# Altium schematic symbol library Capacitors.SchLib: 229 symbols (part 1 of 2)
Pins are listed as number, name and electrical type; pins without a type are passive.

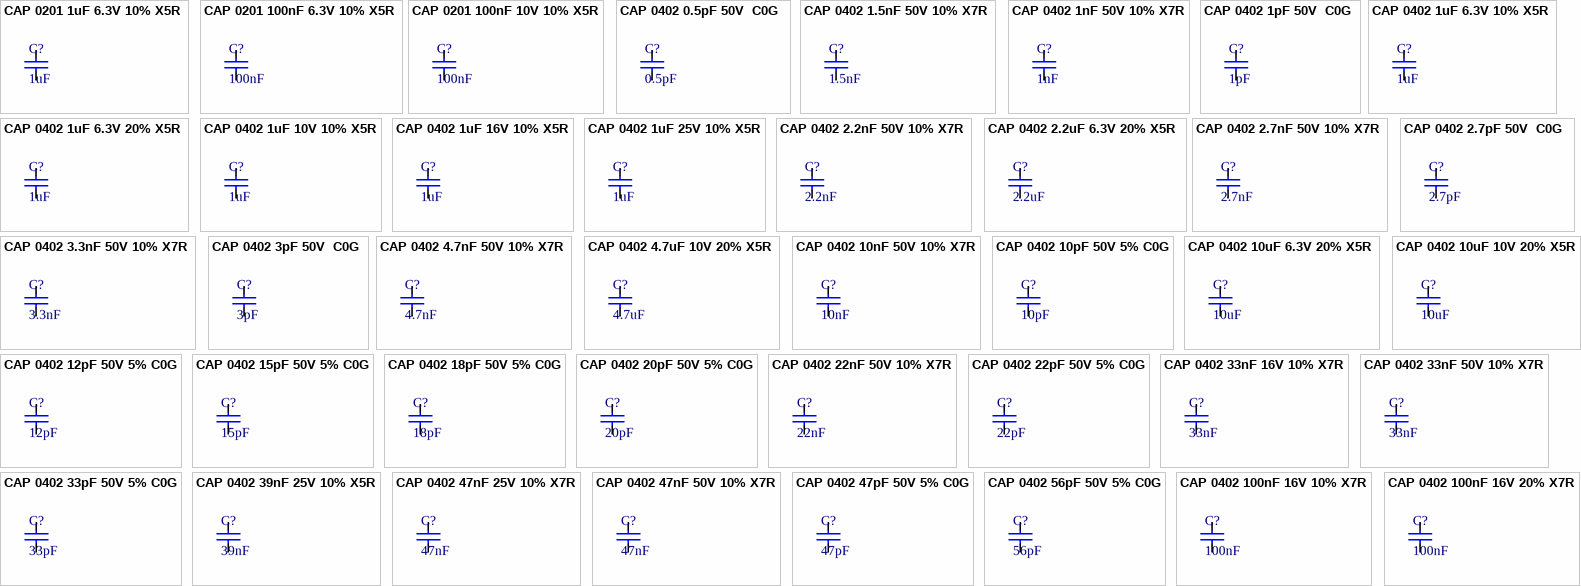
[diagram p0: symbols CAP 0201 1uF 6.3V 10% X5R to CAP 0402 100nF 16V 20% X7R]

## CAP 0201 1uF 6.3V 10% X5R
designator C?, comment 1uF
1uF 10% 6.3V Ceramic Capacitor X5R 0201; Manufacturer: FOJAN; Manufacturer Part Number: FCC0201X105K6R3ZT; Supplier: LCSC; Supplier Part Number: C5137589; Capacitance: 1uF; Tolerance: 10%; Voltage Rating: 6.3V; Temperature Coefficient: X5R
footprint CAP Ceramic SMD 0201
pins: 1, 2

## CAP 0201 100nF 6.3V 10% X5R
designator C?, comment 100nF
100nF 10% 6.3V Ceramic Capacitor X5R 0201; Manufacturer: FOJAN; Manufacturer Part Number: FCC0201X104K6R3ZT; Supplier: LCSC; Supplier Part Number: C5137479; Capacitance: 100nF; Tolerance: 10%; Voltage Rating: 6.3V; Temperature Coefficient: X5R
footprint CAP Ceramic SMD 0201
pins: 1, 2

## CAP 0201 100nF 10V 10% X5R
designator C?, comment 100nF
100nF 10% 10V Ceramic Capacitor X5R 0201; Manufacturer: FOJAN; Manufacturer Part Number: FCC0201X104K100ZT; Supplier: LCSC; Supplier Part Number: C7419414; Capacitance: 100nF; Tolerance: 10%; Voltage Rating: 10V; Temperature Coefficient: X5R
footprint CAP Ceramic SMD 0201
pins: 1, 2

## CAP 0402 0.5pF 50V  C0G
designator C?, comment 0.5pF
0.5pF 50V Ceramic Capacitor C0G 0402; Manufacturer: FOJAN; Manufacturer Part Number: FCC0402N0R5C500AT; Supplier: LCSC; Supplier Part Number: C5137618; Capacitance: 0.5pF; Voltage Rating: 50V; Temperature Coefficient: C0G
footprint CAP Ceramic SMD 0402
pins: 1, 2

## CAP 0402 1.5nF 50V 10% X7R
designator C?, comment 1.5nF
50V 1.5nF X7R 10% 0402 Ceramic Capacitors RoHS; Manufacturer: FOJAN; Manufacturer Part Number: FCC0402B152K500AT; Supplier: LCSC; Supplier Part Number: C7467153; Capacitance: 1.5nF; Tolerance: 10%; Voltage Rating: 50V; Temperature Coefficient: X7R
footprint CAP Ceramic SMD 0402
pins: 1, 2

## CAP 0402 1nF 50V 10% X7R
designator C?, comment 1nF
1nF 10% 50V Ceramic Capacitor X7R 0402; Manufacturer: FOJAN; Manufacturer Part Number: FCC0402B102K500AT; Supplier: LCSC; Supplier Part Number: C5137470; Capacitance: 1nF; Tolerance: 10%; Voltage Rating: 50V; Temperature Coefficient: X7R
footprint CAP Ceramic SMD 0402
pins: 1, 2

## CAP 0402 1pF 50V  C0G
designator C?, comment 1pF
1pF 50V Ceramic Capacitor C0G 0402; Manufacturer: FOJAN; Manufacturer Part Number: FCC0402N1R0C500AT; Supplier: LCSC; Supplier Part Number: C5137619; Capacitance: 1pF; Voltage Rating: 50V; Temperature Coefficient: C0G
footprint CAP Ceramic SMD 0402
pins: 1, 2

## CAP 0402 1uF 6.3V 10% X5R
designator C?, comment 1uF
1uF 10% 6.3V Ceramic Capacitor X5R 0402; Manufacturer: FOJAN; Manufacturer Part Number: FCC0402X105K6R3AT; Supplier: LCSC; Supplier Part Number: C5137474; Capacitance: 1uF; Tolerance: 10%; Voltage Rating: 6.3V; Temperature Coefficient: X5R
footprint CAP Ceramic SMD 0402
pins: 1, 2

## CAP 0402 1uF 6.3V 20% X5R
designator C?, comment 1uF
1uF 20% 6.3V Ceramic Capacitor X5R 0402; Manufacturer: FOJAN; Manufacturer Part Number: FCC0402X105M6R3AT; Supplier: LCSC; Supplier Part Number: C5137485; Capacitance: 1uF; Tolerance: 20%; Voltage Rating: 6.3V; Temperature Coefficient: X5R
footprint CAP Ceramic SMD 0402
pins: 1, 2

## CAP 0402 1uF 10V 10% X5R
designator C?, comment 1uF
1uF 10% 10V Ceramic Capacitor X5R 0402; Manufacturer: FOJAN; Manufacturer Part Number: FCC0402X105K100AT; Supplier: LCSC; Supplier Part Number: C5137473; Capacitance: 1uF; Tolerance: 10%; Voltage Rating: 10V; Temperature Coefficient: X5R
footprint CAP Ceramic SMD 0402
pins: 1, 2

## CAP 0402 1uF 16V 10% X5R
designator C?, comment 1uF
1uF 10% 16V Ceramic Capacitor X5R 0402; Manufacturer: FOJAN; Manufacturer Part Number: FCC0402X105K160AT; Supplier: LCSC; Supplier Part Number: C5137499; Capacitance: 1uF; Tolerance: 10%; Voltage Rating: 16V; Temperature Coefficient: X5R
footprint CAP Ceramic SMD 0402
pins: 1, 2

## CAP 0402 1uF 25V 10% X5R
designator C?, comment 1uF
1uF 10% 25V Ceramic Capacitor X5R 0402; Manufacturer: FOJAN; Manufacturer Part Number: FCC0402X105K250AT; Supplier: LCSC; Supplier Part Number: C7467048; Capacitance: 1uF; Tolerance: 10%; Voltage Rating: 25V; Temperature Coefficient: X5R
footprint CAP Ceramic SMD 0402
pins: 1, 2

## CAP 0402 2.2nF 50V 10% X7R
designator C?, comment 2.2nF
2.2nF 10% 50V Ceramic Capacitor X7R 0402; Manufacturer: FOJAN; Manufacturer Part Number: FCC0402B222K500AT; Supplier: LCSC; Supplier Part Number: C5137601; Capacitance: 2.2nF; Tolerance: 10%; Voltage Rating: 50V; Temperature Coefficient: X7R
footprint CAP Ceramic SMD 0402
pins: 1, 2

## CAP 0402 2.2uF 6.3V 20% X5R
designator C?, comment 2.2uF
2.2uF 20% 6.3V Ceramic Capacitor X5R 0402; Manufacturer: FOJAN; Manufacturer Part Number: FCC0402X225M6R3AT; Supplier: LCSC; Supplier Part Number: C46635919; Capacitance: 2.2uF; Tolerance: 20%; Voltage Rating: 6.3V; Temperature Coefficient: X5R
footprint CAP Ceramic SMD 0402
pins: 1, 2

## CAP 0402 2.7nF 50V 10% X7R
designator C?, comment 2.7nF
2.7nF 10% 50V Ceramic Capacitor X7R 0402; Manufacturer: FOJAN; Manufacturer Part Number: FCC0402B272K500AT; Supplier: LCSC; Supplier Part Number: C5137593; Capacitance: 2.7nF; Tolerance: 10%; Voltage Rating: 50V; Temperature Coefficient: X7R
footprint CAP Ceramic SMD 0402
pins: 1, 2

## CAP 0402 2.7pF 50V  C0G
designator C?, comment 2.7pF
2.7pF 50V Ceramic Capacitor C0G 0402; Manufacturer: FOJAN; Manufacturer Part Number: FCC0402N2R7C500AT; Supplier: LCSC; Supplier Part Number: C5137648; Capacitance: 2.7pF; Voltage Rating: 50V; Temperature Coefficient: C0G
footprint CAP Ceramic SMD 0402
pins: 1, 2

## CAP 0402 3.3nF 50V 10% X7R
designator C?, comment 3.3nF
3.3nF 10% 50V Ceramic Capacitor X7R 0402; Manufacturer: FOJAN; Manufacturer Part Number: FCC0402B332K500AT; Supplier: LCSC; Supplier Part Number: C5137602; Capacitance: 3.3nF; Tolerance: 10%; Voltage Rating: 50V; Temperature Coefficient: X7R
footprint CAP Ceramic SMD 0402
pins: 1, 2

## CAP 0402 3pF 50V  C0G
designator C?, comment 3pF
3pF 50V Ceramic Capacitor C0G 0402; Manufacturer: FOJAN; Manufacturer Part Number: FCC0402N3R0C500AT; Supplier: LCSC; Supplier Part Number: C5137613; Capacitance: 3pF; Voltage Rating: 50V; Temperature Coefficient: C0G
footprint CAP Ceramic SMD 0402
pins: 1, 2

## CAP 0402 4.7nF 50V 10% X7R
designator C?, comment 4.7nF
4.7nF 10% 50V Ceramic Capacitor X7R 0402; Manufacturer: FOJAN; Manufacturer Part Number: FCC0402B472K500AT; Supplier: LCSC; Supplier Part Number: C5137597; Capacitance: 4.7nF; Tolerance: 10%; Voltage Rating: 50V; Temperature Coefficient: X7R
footprint CAP Ceramic SMD 0402
pins: 1, 2

## CAP 0402 4.7uF 10V 20% X5R
designator C?, comment 4.7uF
4.7uF 20% 10V Ceramic Capacitor X5R 0402; Manufacturer: FOJAN; Manufacturer Part Number: FCC0402X475M100AT; Supplier: LCSC; Supplier Part Number: C46635918; Capacitance: 4.7uF; Tolerance: 20%; Voltage Rating: 10V; Temperature Coefficient: X5R
footprint CAP Ceramic SMD 0402
pins: 1, 2

## CAP 0402 10nF 50V 10% X7R
designator C?, comment 10nF
10nF 10% 50V Ceramic Capacitor X7R 0402; Manufacturer: FOJAN; Manufacturer Part Number: FCC0402B103K500AT; Supplier: LCSC; Supplier Part Number: C5137480; Capacitance: 10nF; Tolerance: 10%; Voltage Rating: 50V; Temperature Coefficient: X7R
footprint CAP Ceramic SMD 0402
pins: 1, 2

## CAP 0402 10pF 50V 5% C0G
designator C?, comment 10pF
10pF 5% 50V Ceramic Capacitor C0G 0402; Manufacturer: FOJAN; Manufacturer Part Number: FCC0402N100J500AT; Supplier: LCSC; Supplier Part Number: C5137557; Capacitance: 10pF; Tolerance: 5%; Voltage Rating: 50V; Temperature Coefficient: C0G
footprint CAP Ceramic SMD 0402
pins: 1, 2

## CAP 0402 10uF 6.3V 20% X5R
designator C?, comment 10uF
10uF 20% 6.3V Ceramic Capacitor X5R 0402; Manufacturer: FOJAN; Manufacturer Part Number: FCC0402X106M6R3AT; Supplier: LCSC; Supplier Part Number: C46635916; Capacitance: 10uF; Tolerance: 20%; Voltage Rating: 6.3V; Temperature Coefficient: X5R
footprint CAP Ceramic SMD 0402
pins: 1, 2

## CAP 0402 10uF 10V 20% X5R
designator C?, comment 10uF
10uF 20% 10V Ceramic Capacitor X5R 0402; Manufacturer: FOJAN; Manufacturer Part Number: FCC0402X106M100AT; Supplier: LCSC; Supplier Part Number: C7467116; Capacitance: 10uF; Tolerance: 20%; Voltage Rating: 10V; Temperature Coefficient: X5R
footprint CAP Ceramic SMD 0402
pins: 1, 2

## CAP 0402 12pF 50V 5% C0G
designator C?, comment 12pF
12pF 5% 50V Ceramic Capacitor C0G 0402; Manufacturer: FOJAN; Manufacturer Part Number: FCC0402N120J500AT; Supplier: LCSC; Supplier Part Number: C7467122; Capacitance: 12pF; Tolerance: 5%; Voltage Rating: 50V; Temperature Coefficient: C0G
footprint CAP Ceramic SMD 0402
pins: 1, 2

## CAP 0402 15pF 50V 5% C0G
designator C?, comment 15pF
15pF 5% 50V Ceramic Capacitor C0G 0402; Manufacturer: FOJAN; Manufacturer Part Number: FCC0402N150J500AT; Supplier: LCSC; Supplier Part Number: C5137592; Capacitance: 15pF; Tolerance: 5%; Voltage Rating: 50V; Temperature Coefficient: C0G
footprint CAP Ceramic SMD 0402
pins: 1, 2

## CAP 0402 18pF 50V 5% C0G
designator C?, comment 18pF
18pF 5% 50V Ceramic Capacitor C0G 0402; Manufacturer: FOJAN; Manufacturer Part Number: FCC0402N180J500AT; Supplier: LCSC; Supplier Part Number: C5137554; Capacitance: 18pF; Tolerance: 5%; Voltage Rating: 50V; Temperature Coefficient: C0G
footprint CAP Ceramic SMD 0402
pins: 1, 2

## CAP 0402 20pF 50V 5% C0G
designator C?, comment 20pF
20pF 5% 50V Ceramic Capacitor C0G 0402; Manufacturer: FOJAN; Manufacturer Part Number: FCC0402N200J500AT; Supplier: LCSC; Supplier Part Number: C5137579; Capacitance: 20pF; Tolerance: 5%; Voltage Rating: 50V; Temperature Coefficient: C0G
footprint CAP Ceramic SMD 0402
pins: 1, 2

## CAP 0402 22nF 50V 10% X7R
designator C?, comment 22nF
22nF 10% 50V Ceramic Capacitor X7R 0402; Manufacturer: FOJAN; Manufacturer Part Number: FCC0402B223K500AT; Supplier: LCSC; Supplier Part Number: C5137627; Capacitance: 22nF; Tolerance: 10%; Voltage Rating: 50V; Temperature Coefficient: X7R
footprint CAP Ceramic SMD 0402
pins: 1, 2

## CAP 0402 22pF 50V 5% C0G
designator C?, comment 22pF
22pF 5% 50V Ceramic Capacitor C0G 0402; Manufacturer: FOJAN; Manufacturer Part Number: FCC0402N220J500AT; Supplier: LCSC; Supplier Part Number: C5137569; Capacitance: 22pF; Tolerance: 5%; Voltage Rating: 50V; Temperature Coefficient: C0G
footprint CAP Ceramic SMD 0402
pins: 1, 2

## CAP 0402 33nF 16V 10% X7R
designator C?, comment 33nF
33nF 10% 16V Ceramic Capacitor X7R 0402; Manufacturer: FOJAN; Manufacturer Part Number: FCC0402B333K160AT; Supplier: LCSC; Supplier Part Number: C5137555; Capacitance: 33nF; Tolerance: 10%; Voltage Rating: 16V; Temperature Coefficient: X7R
footprint CAP Ceramic SMD 0402
pins: 1, 2

## CAP 0402 33nF 50V 10% X7R
designator C?, comment 33nF
33nF 10% 50V Ceramic Capacitor X7R 0402; Manufacturer: FOJAN; Manufacturer Part Number: FCC0402B333K500AT; Supplier: LCSC; Supplier Part Number: C7419416; Capacitance: 33nF; Tolerance: 10%; Voltage Rating: 50V; Temperature Coefficient: X7R
footprint CAP Ceramic SMD 0402
pins: 1, 2

## CAP 0402 33pF 50V 5% C0G
designator C?, comment 33pF
33pF 5% 50V Ceramic Capacitor C0G 0402; Manufacturer: FOJAN; Manufacturer Part Number: FCC0402N330J500AT; Supplier: LCSC; Supplier Part Number: C5137486; Capacitance: 33pF; Tolerance: 5%; Voltage Rating: 50V; Temperature Coefficient: C0G
footprint CAP Ceramic SMD 0402
pins: 1, 2

## CAP 0402 39nF 25V 10% X5R
designator C?, comment 39nF
39nF 10% 25V Ceramic Capacitor X5R 0402; Manufacturer: FOJAN; Manufacturer Part Number: FCC0402X393K250AT; Supplier: LCSC; Supplier Part Number: C7496650; Capacitance: 39nF; Tolerance: 10%; Voltage Rating: 25V; Temperature Coefficient: X5R
footprint CAP Ceramic SMD 0402
pins: 1, 2

## CAP 0402 47nF 25V 10% X7R
designator C?, comment 47nF
47nF 10% 25V Ceramic Capacitor X7R 0402; Manufacturer: FOJAN; Manufacturer Part Number: FCC0402B473K250AT; Supplier: LCSC; Supplier Part Number: C5137574; Capacitance: 47nF; Tolerance: 10%; Voltage Rating: 25V; Temperature Coefficient: X7R
footprint CAP Ceramic SMD 0402
pins: 1, 2

## CAP 0402 47nF 50V 10% X7R
designator C?, comment 47nF
47nF 10% 50V Ceramic Capacitor X7R 0402; Manufacturer: FOJAN; Manufacturer Part Number: FCC0402B473K500AT; Supplier: LCSC; Supplier Part Number: C7467123; Capacitance: 47nF; Tolerance: 10%; Voltage Rating: 50V; Temperature Coefficient: X7R
footprint CAP Ceramic SMD 0402
pins: 1, 2

## CAP 0402 47pF 50V 5% C0G
designator C?, comment 47pF
47pF 5% 50V Ceramic Capacitor C0G 0402; Manufacturer: FOJAN; Manufacturer Part Number: FCC0402N470J500AT; Supplier: LCSC; Supplier Part Number: C7467145; Capacitance: 47pF; Tolerance: 5%; Voltage Rating: 50V; Temperature Coefficient: C0G
footprint CAP Ceramic SMD 0402
pins: 1, 2

## CAP 0402 56pF 50V 5% C0G
designator C?, comment 56pF
56pF 5% 50V Ceramic Capacitor C0G 0402; Manufacturer: FOJAN; Manufacturer Part Number: FCC0402N560J500AT; Supplier: LCSC; Supplier Part Number: C5137588; Capacitance: 56pF; Tolerance: 5%; Voltage Rating: 50V; Temperature Coefficient: C0G
footprint CAP Ceramic SMD 0402
pins: 1, 2

## CAP 0402 100nF 16V 10% X7R
designator C?, comment 100nF
100nF 10% 16V Ceramic Capacitor X7R 0402; Manufacturer: FOJAN; Manufacturer Part Number: FCC0402B104K160AT; Supplier: LCSC; Supplier Part Number: C5137468; Capacitance: 100nF; Tolerance: 10%; Voltage Rating: 16V; Temperature Coefficient: X7R
footprint CAP Ceramic SMD 0402
pins: 1, 2

## CAP 0402 100nF 16V 20% X7R
designator C?, comment 100nF
100nF 20% 16V Ceramic Capacitor X7R 0402; Manufacturer: FOJAN; Manufacturer Part Number: FCC0402B104M160AT; Supplier: LCSC; Supplier Part Number: C5137487; Capacitance: 100nF; Tolerance: 20%; Voltage Rating: 16V; Temperature Coefficient: X7R
footprint CAP Ceramic SMD 0402
pins: 1, 2

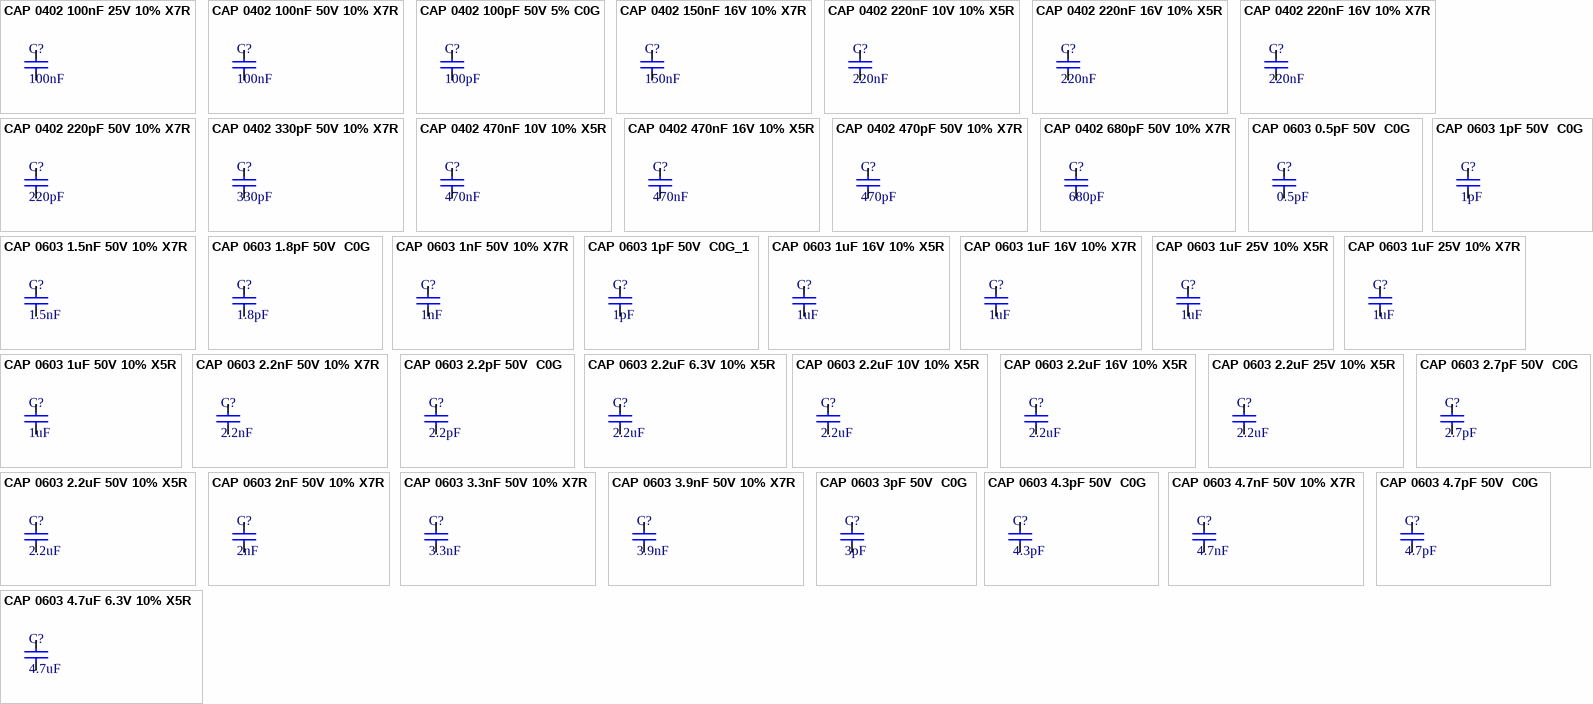
[diagram p1: symbols CAP 0402 100nF 25V 10% X7R to CAP 0603 4.7uF 6.3V 10% X5R]

## CAP 0402 100nF 25V 10% X7R
designator C?, comment 100nF
100nF 10% 25V Ceramic Capacitor X7R 0402; Manufacturer: FOJAN; Manufacturer Part Number: FCC0402B104K250AT; Supplier: LCSC; Supplier Part Number: C5137489; Capacitance: 100nF; Tolerance: 10%; Voltage Rating: 25V; Temperature Coefficient: X7R
footprint CAP Ceramic SMD 0402
pins: 1, 2

## CAP 0402 100nF 50V 10% X7R
designator C?, comment 100nF
100nF 10% 50V Ceramic Capacitor X7R 0402; Manufacturer: FOJAN; Manufacturer Part Number: FCC0402B104K500AT; Supplier: LCSC; Supplier Part Number: C5137492; Capacitance: 100nF; Tolerance: 10%; Voltage Rating: 50V; Temperature Coefficient: X7R
footprint CAP Ceramic SMD 0402
pins: 1, 2

## CAP 0402 100pF 50V 5% C0G
designator C?, comment 100pF
100pF 5% 50V Ceramic Capacitor C0G 0402; Manufacturer: FOJAN; Manufacturer Part Number: FCC0402N101J500AT; Supplier: LCSC; Supplier Part Number: C5137573; Capacitance: 100pF; Tolerance: 5%; Voltage Rating: 50V; Temperature Coefficient: C0G
footprint CAP Ceramic SMD 0402
pins: 1, 2

## CAP 0402 150nF 16V 10% X7R
designator C?, comment 150nF
150nF 10% 16V Ceramic Capacitor X7R 0402; Manufacturer: FOJAN; Manufacturer Part Number: FCC0402B154K160AT; Supplier: LCSC; Supplier Part Number: C7496646; Capacitance: 150nF; Tolerance: 10%; Voltage Rating: 16V; Temperature Coefficient: X7R
footprint CAP Ceramic SMD 0402
pins: 1, 2

## CAP 0402 220nF 10V 10% X5R
designator C?, comment 220nF
220nF 10% 10V Ceramic Capacitor X5R 0402; Manufacturer: FOJAN; Manufacturer Part Number: FCC0402X224K100AT; Supplier: LCSC; Supplier Part Number: C5137570; Capacitance: 220nF; Tolerance: 10%; Voltage Rating: 10V; Temperature Coefficient: X5R
footprint CAP Ceramic SMD 0402
pins: 1, 2

## CAP 0402 220nF 16V 10% X5R
designator C?, comment 220nF
220nF 10% 16V Ceramic Capacitor X5R 0402; Manufacturer: FOJAN; Manufacturer Part Number: FCC0402X224K160AT; Supplier: LCSC; Supplier Part Number: C5137633; Capacitance: 220nF; Tolerance: 10%; Voltage Rating: 16V; Temperature Coefficient: X5R
footprint CAP Ceramic SMD 0402
pins: 1, 2

## CAP 0402 220nF 16V 10% X7R
designator C?, comment 220nF
220nF 10% 16V Ceramic Capacitor X7R 0402; Manufacturer: FOJAN; Manufacturer Part Number: FCC0402B224K160AT; Supplier: LCSC; Supplier Part Number: C7419415; Capacitance: 220nF; Tolerance: 10%; Voltage Rating: 16V; Temperature Coefficient: X7R
footprint CAP Ceramic SMD 0402
pins: 1, 2

## CAP 0402 220pF 50V 10% X7R
designator C?, comment 220pF
220pF 10% 50V Ceramic Capacitor X7R 0402; Manufacturer: FOJAN; Manufacturer Part Number: FCC0402B221K500AT; Supplier: LCSC; Supplier Part Number: C5137590; Capacitance: 220pF; Tolerance: 10%; Voltage Rating: 50V; Temperature Coefficient: X7R
footprint CAP Ceramic SMD 0402
pins: 1, 2

## CAP 0402 330pF 50V 10% X7R
designator C?, comment 330pF
330pF 10% 50V Ceramic Capacitor X7R 0402; Manufacturer: FOJAN; Manufacturer Part Number: FCC0402B331K500AT; Supplier: LCSC; Supplier Part Number: C7467142; Capacitance: 330pF; Tolerance: 10%; Voltage Rating: 50V; Temperature Coefficient: X7R
footprint CAP Ceramic SMD 0402
pins: 1, 2

## CAP 0402 470nF 10V 10% X5R
designator C?, comment 470nF
470nF 10% 10V Ceramic Capacitor X5R 0402; Manufacturer: FOJAN; Manufacturer Part Number: FCC0402X474K100AT; Supplier: LCSC; Supplier Part Number: C5137475; Capacitance: 470nF; Tolerance: 10%; Voltage Rating: 10V; Temperature Coefficient: X5R
footprint CAP Ceramic SMD 0402
pins: 1, 2

## CAP 0402 470nF 16V 10% X5R
designator C?, comment 470nF
470nF 10% 16V Ceramic Capacitor X5R 0402; Manufacturer: FOJAN; Manufacturer Part Number: FCC0402X474K160AT; Supplier: LCSC; Supplier Part Number: C7467110; Capacitance: 470nF; Tolerance: 10%; Voltage Rating: 16V; Temperature Coefficient: X5R
footprint CAP Ceramic SMD 0402
pins: 1, 2

## CAP 0402 470pF 50V 10% X7R
designator C?, comment 470pF
470pF 10% 50V Ceramic Capacitor X7R 0402; Manufacturer: FOJAN; Manufacturer Part Number: FCC0402B471K500AT; Supplier: LCSC; Supplier Part Number: C7467119; Capacitance: 470pF; Tolerance: 10%; Voltage Rating: 50V; Temperature Coefficient: X7R
footprint CAP Ceramic SMD 0402
pins: 1, 2

## CAP 0402 680pF 50V 10% X7R
designator C?, comment 680pF
680pF 10% 50V Ceramic Capacitor X7R 0402; Manufacturer: FOJAN; Manufacturer Part Number: FCC0402B681K500AT; Supplier: LCSC; Supplier Part Number: C5137577; Capacitance: 680pF; Tolerance: 10%; Voltage Rating: 50V; Temperature Coefficient: X7R
footprint CAP Ceramic SMD 0402
pins: 1, 2

## CAP 0603 0.5pF 50V  C0G
designator C?, comment 0.5pF
0.5pF 50V Ceramic Capacitor C0G 0603; Manufacturer: FOJAN; Manufacturer Part Number: FCC0603N0R5C500CT; Supplier: LCSC; Supplier Part Number: C5137584; Capacitance: 0.5pF; Voltage Rating: 50V; Temperature Coefficient: C0G
footprint CAP Ceramic SMD 0603
pins: 1, 2

## CAP 0603 1.5nF 50V 10% X7R
designator C?, comment 1.5nF
1.5nF 10% 50V Ceramic Capacitor X7R 0603; Manufacturer: FOJAN; Manufacturer Part Number: FCC0603B152K500CT; Supplier: LCSC; Supplier Part Number: C5137609; Capacitance: 1.5nF; Tolerance: 10%; Voltage Rating: 50V; Temperature Coefficient: X7R
footprint CAP Ceramic SMD 0603
pins: 1, 2

## CAP 0603 1.8pF 50V  C0G
designator C?, comment 1.8pF
1.8pF 50V Ceramic Capacitor C0G 0603; Manufacturer: FOJAN; Manufacturer Part Number: FCC0603N1R8C500CT; Supplier: LCSC; Supplier Part Number: C5137638; Capacitance: 1.8pF; Voltage Rating: 50V; Temperature Coefficient: C0G
footprint CAP Ceramic SMD 0603
pins: 1, 2

## CAP 0603 1nF 50V 10% X7R
designator C?, comment 1nF
1nF 10% 50V Ceramic Capacitor X7R 0603; Manufacturer: FOJAN; Manufacturer Part Number: FCC0603B102K500CT; Supplier: LCSC; Supplier Part Number: C5137481; Capacitance: 1nF; Tolerance: 10%; Voltage Rating: 50V; Temperature Coefficient: X7R
footprint CAP Ceramic SMD 0603
pins: 1, 2

## CAP 0603 1pF 50V  C0G
designator C?, comment 1pF
1pF 50V Ceramic Capacitor C0G 0603; Manufacturer: FOJAN; Manufacturer Part Number: FCC0603N1R0C500CT; Supplier: LCSC; Supplier Part Number: C5137611; Capacitance: 1pF; Voltage Rating: 50V; Temperature Coefficient: C0G
footprint CAP Ceramic SMD 0603
pins: 1, 2

## CAP 0603 1pF 50V  C0G_1
designator C?, comment 1pF
1pF 50V Ceramic Capacitor C0G 0603; Manufacturer: FOJAN; Manufacturer Part Number: FCC0603N1R0D500CT; Supplier: LCSC; Supplier Part Number: C7419420; Capacitance: 1pF; Voltage Rating: 50V; Temperature Coefficient: C0G
footprint CAP Ceramic SMD 0603
pins: 1, 2

## CAP 0603 1uF 16V 10% X5R
designator C?, comment 1uF
1uF 10% 16V Ceramic Capacitor X5R 0603; Manufacturer: FOJAN; Manufacturer Part Number: FCC0603X105K160CT; Supplier: LCSC; Supplier Part Number: C5137472; Capacitance: 1uF; Tolerance: 10%; Voltage Rating: 16V; Temperature Coefficient: X5R
footprint CAP Ceramic SMD 0603
pins: 1, 2

## CAP 0603 1uF 16V 10% X7R
designator C?, comment 1uF
1uF 10% 16V Ceramic Capacitor X7R 0603; Manufacturer: FOJAN; Manufacturer Part Number: FCC0603B105K160CT; Supplier: LCSC; Supplier Part Number: C7419418; Capacitance: 1uF; Tolerance: 10%; Voltage Rating: 16V; Temperature Coefficient: X7R
footprint CAP Ceramic SMD 0603
pins: 1, 2

## CAP 0603 1uF 25V 10% X5R
designator C?, comment 1uF
1uF 10% 25V Ceramic Capacitor X5R 0603; Manufacturer: FOJAN; Manufacturer Part Number: FCC0603X105K250CT; Supplier: LCSC; Supplier Part Number: C5137604; Capacitance: 1uF; Tolerance: 10%; Voltage Rating: 25V; Temperature Coefficient: X5R
footprint CAP Ceramic SMD 0603
pins: 1, 2

## CAP 0603 1uF 25V 10% X7R
designator C?, comment 1uF
1uF 10% 25V Ceramic Capacitor X7R 0603; Manufacturer: FOJAN; Manufacturer Part Number: FCC0603B105K250CT; Supplier: LCSC; Supplier Part Number: C5137572; Capacitance: 1uF; Tolerance: 10%; Voltage Rating: 25V; Temperature Coefficient: X7R
footprint CAP Ceramic SMD 0603
pins: 1, 2

## CAP 0603 1uF 50V 10% X5R
designator C?, comment 1uF
1uF 10% 50V Ceramic Capacitor X5R 0603; Manufacturer: FOJAN; Manufacturer Part Number: FCC0603X105K500CT; Supplier: LCSC; Supplier Part Number: C7419424; Capacitance: 1uF; Tolerance: 10%; Voltage Rating: 50V; Temperature Coefficient: X5R
footprint CAP Ceramic SMD 0603
pins: 1, 2

## CAP 0603 2.2nF 50V 10% X7R
designator C?, comment 2.2nF
2.2nF 10% 50V Ceramic Capacitor X7R 0603; Manufacturer: FOJAN; Manufacturer Part Number: FCC0603B222K500CT; Supplier: LCSC; Supplier Part Number: C5137562; Capacitance: 2.2nF; Tolerance: 10%; Voltage Rating: 50V; Temperature Coefficient: X7R
footprint CAP Ceramic SMD 0603
pins: 1, 2

## CAP 0603 2.2pF 50V  C0G
designator C?, comment 2.2pF
2.2pF 50V Ceramic Capacitor C0G 0603; Manufacturer: FOJAN; Manufacturer Part Number: FCC0603N2R2C500CT; Supplier: LCSC; Supplier Part Number: C5137608; Capacitance: 2.2pF; Voltage Rating: 50V; Temperature Coefficient: C0G
footprint CAP Ceramic SMD 0603
pins: 1, 2

## CAP 0603 2.2uF 6.3V 10% X5R
designator C?, comment 2.2uF
2.2uF 10% 6.3V Ceramic Capacitor X5R 0603; Manufacturer: FOJAN; Manufacturer Part Number: FCC0603X225K6R3CT; Supplier: LCSC; Supplier Part Number: C5137560; Capacitance: 2.2uF; Tolerance: 10%; Voltage Rating: 6.3V; Temperature Coefficient: X5R
footprint CAP Ceramic SMD 0603
pins: 1, 2

## CAP 0603 2.2uF 10V 10% X5R
designator C?, comment 2.2uF
2.2uF 10% 10V Ceramic Capacitor X5R 0603; Manufacturer: FOJAN; Manufacturer Part Number: FCC0603X225K100CT; Supplier: LCSC; Supplier Part Number: C5137558; Capacitance: 2.2uF; Tolerance: 10%; Voltage Rating: 10V; Temperature Coefficient: X5R
footprint CAP Ceramic SMD 0603
pins: 1, 2

## CAP 0603 2.2uF 16V 10% X5R
designator C?, comment 2.2uF
2.2uF 10% 16V Ceramic Capacitor X5R 0603; Manufacturer: FOJAN; Manufacturer Part Number: FCC0603X225K160CT; Supplier: LCSC; Supplier Part Number: C5137502; Capacitance: 2.2uF; Tolerance: 10%; Voltage Rating: 16V; Temperature Coefficient: X5R
footprint CAP Ceramic SMD 0603
pins: 1, 2

## CAP 0603 2.2uF 25V 10% X5R
designator C?, comment 2.2uF
2.2uF 10% 25V Ceramic Capacitor X5R 0603; Manufacturer: FOJAN; Manufacturer Part Number: FCC0603X225K250CT; Supplier: LCSC; Supplier Part Number: C5137596; Capacitance: 2.2uF; Tolerance: 10%; Voltage Rating: 25V; Temperature Coefficient: X5R
footprint CAP Ceramic SMD 0603
pins: 1, 2

## CAP 0603 2.2uF 50V 10% X5R
designator C?, comment 2.2uF
2.2uF 10% 50V Ceramic Capacitor X5R 0603; Manufacturer: FOJAN; Manufacturer Part Number: FCC0603X225K500CT; Supplier: LCSC; Supplier Part Number: C7467132; Capacitance: 2.2uF; Tolerance: 10%; Voltage Rating: 50V; Temperature Coefficient: X5R
footprint CAP Ceramic SMD 0603
pins: 1, 2

## CAP 0603 2.7pF 50V  C0G
designator C?, comment 2.7pF
2.7pF 50V Ceramic Capacitor C0G 0603; Manufacturer: FOJAN; Manufacturer Part Number: FCC0603N2R7C500CT; Supplier: LCSC; Supplier Part Number: C5137625; Capacitance: 2.7pF; Voltage Rating: 50V; Temperature Coefficient: C0G
footprint CAP Ceramic SMD 0603
pins: 1, 2

## CAP 0603 2nF 50V 10% X7R
designator C?, comment 2nF
2nF 10% 50V Ceramic Capacitor X7R 0603; Manufacturer: FOJAN; Manufacturer Part Number: FCC0603B202K500CT; Supplier: LCSC; Supplier Part Number: C7467178; Capacitance: 2nF; Tolerance: 10%; Voltage Rating: 50V; Temperature Coefficient: X7R
footprint CAP Ceramic SMD 0603
pins: 1, 2

## CAP 0603 3.3nF 50V 10% X7R
designator C?, comment 3.3nF
3.3nF 10% 50V Ceramic Capacitor X7R 0603; Manufacturer: FOJAN; Manufacturer Part Number: FCC0603B332K500CT; Supplier: LCSC; Supplier Part Number: C5137575; Capacitance: 3.3nF; Tolerance: 10%; Voltage Rating: 50V; Temperature Coefficient: X7R
footprint CAP Ceramic SMD 0603
pins: 1, 2

## CAP 0603 3.9nF 50V 10% X7R
designator C?, comment 3.9nF
3.9nF 10% 50V Ceramic Capacitor X7R 0603; Manufacturer: FOJAN; Manufacturer Part Number: FCC0603B392K500CT; Supplier: LCSC; Supplier Part Number: C7467225; Capacitance: 3.9nF; Tolerance: 10%; Voltage Rating: 50V; Temperature Coefficient: X7R
footprint CAP Ceramic SMD 0603
pins: 1, 2

## CAP 0603 3pF 50V  C0G
designator C?, comment 3pF
3pF 50V Ceramic Capacitor C0G 0603; Manufacturer: FOJAN; Manufacturer Part Number: FCC0603N3R0C500CT; Supplier: LCSC; Supplier Part Number: C5137582; Capacitance: 3pF; Voltage Rating: 50V; Temperature Coefficient: C0G
footprint CAP Ceramic SMD 0603
pins: 1, 2

## CAP 0603 4.3pF 50V  C0G
designator C?, comment 4.3pF
4.3pF 50V Ceramic Capacitor C0G 0603; Manufacturer: FOJAN; Manufacturer Part Number: FCC0603N4R3C500CT; Supplier: LCSC; Supplier Part Number: C7496639; Capacitance: 4.3pF; Voltage Rating: 50V; Temperature Coefficient: C0G
footprint CAP Ceramic SMD 0603
pins: 1, 2

## CAP 0603 4.7nF 50V 10% X7R
designator C?, comment 4.7nF
4.7nF 10% 50V Ceramic Capacitor X7R 0603; Manufacturer: FOJAN; Manufacturer Part Number: FCC0603B472K500CT; Supplier: LCSC; Supplier Part Number: C5137561; Capacitance: 4.7nF; Tolerance: 10%; Voltage Rating: 50V; Temperature Coefficient: X7R
footprint CAP Ceramic SMD 0603
pins: 1, 2

## CAP 0603 4.7pF 50V  C0G
designator C?, comment 4.7pF
4.7pF 50V Ceramic Capacitor C0G 0603; Manufacturer: FOJAN; Manufacturer Part Number: FCC0603N4R7C500CT; Supplier: LCSC; Supplier Part Number: C5137594; Capacitance: 4.7pF; Voltage Rating: 50V; Temperature Coefficient: C0G
footprint CAP Ceramic SMD 0603
pins: 1, 2

## CAP 0603 4.7uF 6.3V 10% X5R
designator C?, comment 4.7uF
4.7uF 10% 6.3V Ceramic Capacitor X5R 0603; Manufacturer: FOJAN; Manufacturer Part Number: FCC0603X475K6R3CT; Supplier: LCSC; Supplier Part Number: C7419427; Capacitance: 4.7uF; Tolerance: 10%; Voltage Rating: 6.3V; Temperature Coefficient: X5R
footprint CAP Ceramic SMD 0603
pins: 1, 2

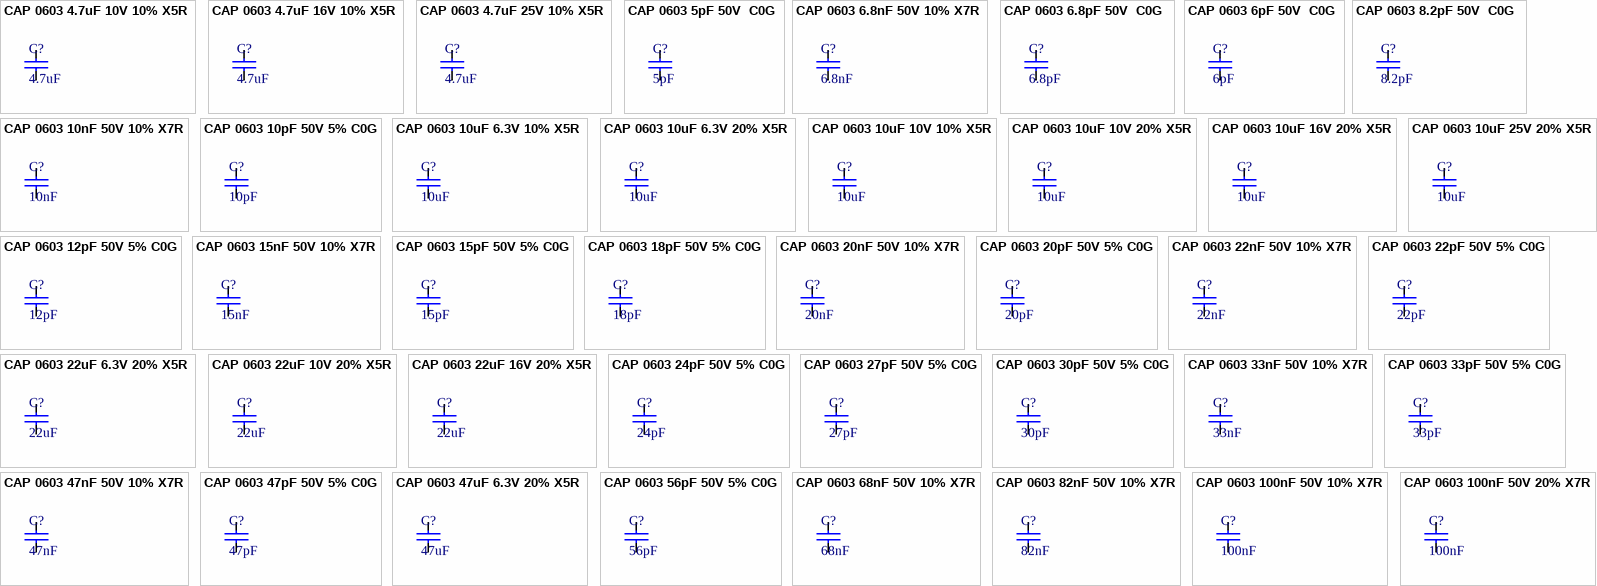
[diagram p2: symbols CAP 0603 4.7uF 10V 10% X5R to CAP 0603 100nF 50V 20% X7R]

## CAP 0603 4.7uF 10V 10% X5R
designator C?, comment 4.7uF
4.7uF 10% 10V Ceramic Capacitor X5R 0603; Manufacturer: FOJAN; Manufacturer Part Number: FCC0603X475K100CT; Supplier: LCSC; Supplier Part Number: C7419425; Capacitance: 4.7uF; Tolerance: 10%; Voltage Rating: 10V; Temperature Coefficient: X5R
footprint CAP Ceramic SMD 0603
pins: 1, 2

## CAP 0603 4.7uF 16V 10% X5R
designator C?, comment 4.7uF
4.7uF 10% 16V Ceramic Capacitor X5R 0603; Manufacturer: FOJAN; Manufacturer Part Number: FCC0603X475K160CT; Supplier: LCSC; Supplier Part Number: C7419426; Capacitance: 4.7uF; Tolerance: 10%; Voltage Rating: 16V; Temperature Coefficient: X5R
footprint CAP Ceramic SMD 0603
pins: 1, 2

## CAP 0603 4.7uF 25V 10% X5R
designator C?, comment 4.7uF
4.7uF 10% 25V Ceramic Capacitor X5R 0603; Manufacturer: FOJAN; Manufacturer Part Number: FCC0603X475K250CT; Supplier: LCSC; Supplier Part Number: C7467112; Capacitance: 4.7uF; Tolerance: 10%; Voltage Rating: 25V; Temperature Coefficient: X5R
footprint CAP Ceramic SMD 0603
pins: 1, 2

## CAP 0603 5pF 50V  C0G
designator C?, comment 5pF
5pF 50V Ceramic Capacitor C0G 0603; Manufacturer: FOJAN; Manufacturer Part Number: FCC0603N5R0C500CT; Supplier: LCSC; Supplier Part Number: C5137626; Capacitance: 5pF; Voltage Rating: 50V; Temperature Coefficient: C0G
footprint CAP Ceramic SMD 0603
pins: 1, 2

## CAP 0603 6.8nF 50V 10% X7R
designator C?, comment 6.8nF
6.8nF 10% 50V Ceramic Capacitor X7R 0603; Manufacturer: FOJAN; Manufacturer Part Number: FCC0603B682K500CT; Supplier: LCSC; Supplier Part Number: C5137585; Capacitance: 6.8nF; Tolerance: 10%; Voltage Rating: 50V; Temperature Coefficient: X7R
footprint CAP Ceramic SMD 0603
pins: 1, 2

## CAP 0603 6.8pF 50V  C0G
designator C?, comment 6.8pF
6.8pF 50V Ceramic Capacitor C0G 0603; Manufacturer: FOJAN; Manufacturer Part Number: FCC0603N6R8C500CT; Supplier: LCSC; Supplier Part Number: C7419423; Capacitance: 6.8pF; Voltage Rating: 50V; Temperature Coefficient: C0G
footprint CAP Ceramic SMD 0603
pins: 1, 2

## CAP 0603 6pF 50V  C0G
designator C?, comment 6pF
6pF 50V Ceramic Capacitor C0G 0603; Manufacturer: FOJAN; Manufacturer Part Number: FCC0603N6R0C500CT; Supplier: LCSC; Supplier Part Number: C5137610; Capacitance: 6pF; Voltage Rating: 50V; Temperature Coefficient: C0G
footprint CAP Ceramic SMD 0603
pins: 1, 2

## CAP 0603 8.2pF 50V  C0G
designator C?, comment 8.2pF
8.2pF 50V Ceramic Capacitor C0G 0603; Manufacturer: FOJAN; Manufacturer Part Number: FCC0603N8R2C500CT; Supplier: LCSC; Supplier Part Number: C5137629; Capacitance: 8.2pF; Voltage Rating: 50V; Temperature Coefficient: C0G
footprint CAP Ceramic SMD 0603
pins: 1, 2

## CAP 0603 10nF 50V 10% X7R
designator C?, comment 10nF
10nF 10% 50V Ceramic Capacitor X7R 0603; Manufacturer: FOJAN; Manufacturer Part Number: FCC0603B103K500CT; Supplier: LCSC; Supplier Part Number: C5137477; Capacitance: 10nF; Tolerance: 10%; Voltage Rating: 50V; Temperature Coefficient: X7R
footprint CAP Ceramic SMD 0603
pins: 1, 2

## CAP 0603 10pF 50V 5% C0G
designator C?, comment 10pF
10pF 5% 50V Ceramic Capacitor C0G 0603; Manufacturer: FOJAN; Manufacturer Part Number: FCC0603N100J500CT; Supplier: LCSC; Supplier Part Number: C5137581; Capacitance: 10pF; Tolerance: 5%; Voltage Rating: 50V; Temperature Coefficient: C0G
footprint CAP Ceramic SMD 0603
pins: 1, 2

## CAP 0603 10uF 6.3V 10% X5R
designator C?, comment 10uF
10uF 10% 6.3V Ceramic Capacitor X5R 0603; Manufacturer: FOJAN; Manufacturer Part Number: FCC0603X106K6R3CT; Supplier: LCSC; Supplier Part Number: C5137497; Capacitance: 10uF; Tolerance: 10%; Voltage Rating: 6.3V; Temperature Coefficient: X5R
footprint CAP Ceramic SMD 0603
pins: 1, 2

## CAP 0603 10uF 6.3V 20% X5R
designator C?, comment 10uF
10uF 20% 6.3V Ceramic Capacitor X5R 0603; Manufacturer: FOJAN; Manufacturer Part Number: FCC0603X106M6R3CT; Supplier: LCSC; Supplier Part Number: C5137483; Capacitance: 10uF; Tolerance: 20%; Voltage Rating: 6.3V; Temperature Coefficient: X5R
footprint CAP Ceramic SMD 0603
pins: 1, 2

## CAP 0603 10uF 10V 10% X5R
designator C?, comment 10uF
10uF 10% 10V Ceramic Capacitor X5R 0603; Manufacturer: FOJAN; Manufacturer Part Number: FCC0603X106K100CT; Supplier: LCSC; Supplier Part Number: C5137565; Capacitance: 10uF; Tolerance: 10%; Voltage Rating: 10V; Temperature Coefficient: X5R
footprint CAP Ceramic SMD 0603
pins: 1, 2

## CAP 0603 10uF 10V 20% X5R
designator C?, comment 10uF
10uF 20% 10V Ceramic Capacitor X5R 0603; Manufacturer: FOJAN; Manufacturer Part Number: FCC0603X106M100CT; Supplier: LCSC; Supplier Part Number: C5137578; Capacitance: 10uF; Tolerance: 20%; Voltage Rating: 10V; Temperature Coefficient: X5R
footprint CAP Ceramic SMD 0603
pins: 1, 2

## CAP 0603 10uF 16V 20% X5R
designator C?, comment 10uF
10uF 20% 16V Ceramic Capacitor X5R 0603; Manufacturer: FOJAN; Manufacturer Part Number: FCC0603X106M160CT; Supplier: LCSC; Supplier Part Number: C7467046; Capacitance: 10uF; Tolerance: 20%; Voltage Rating: 16V; Temperature Coefficient: X5R
footprint CAP Ceramic SMD 0603
pins: 1, 2

## CAP 0603 10uF 25V 20% X5R
designator C?, comment 10uF
10uF 20% 25V Ceramic Capacitor X5R 0603; Manufacturer: FOJAN; Manufacturer Part Number: FCC0603X106M250CT; Supplier: LCSC; Supplier Part Number: C7467055; Capacitance: 10uF; Tolerance: 20%; Voltage Rating: 25V; Temperature Coefficient: X5R
footprint CAP Ceramic SMD 0603
pins: 1, 2

## CAP 0603 12pF 50V 5% C0G
designator C?, comment 12pF
12pF 5% 50V Ceramic Capacitor C0G 0603; Manufacturer: FOJAN; Manufacturer Part Number: FCC0603N120J500CT; Supplier: LCSC; Supplier Part Number: C5137591; Capacitance: 12pF; Tolerance: 5%; Voltage Rating: 50V; Temperature Coefficient: C0G
footprint CAP Ceramic SMD 0603
pins: 1, 2

## CAP 0603 15nF 50V 10% X7R
designator C?, comment 15nF
15nF 10% 50V Ceramic Capacitor X7R 0603; Manufacturer: FOJAN; Manufacturer Part Number: FCC0603B153K500CT; Supplier: LCSC; Supplier Part Number: C5137641; Capacitance: 15nF; Tolerance: 10%; Voltage Rating: 50V; Temperature Coefficient: X7R
footprint CAP Ceramic SMD 0603
pins: 1, 2

## CAP 0603 15pF 50V 5% C0G
designator C?, comment 15pF
15pF 5% 50V Ceramic Capacitor C0G 0603; Manufacturer: FOJAN; Manufacturer Part Number: FCC0603N150J500CT; Supplier: LCSC; Supplier Part Number: C5137617; Capacitance: 15pF; Tolerance: 5%; Voltage Rating: 50V; Temperature Coefficient: C0G
footprint CAP Ceramic SMD 0603
pins: 1, 2

## CAP 0603 18pF 50V 5% C0G
designator C?, comment 18pF
18pF 5% 50V Ceramic Capacitor C0G 0603; Manufacturer: FOJAN; Manufacturer Part Number: FCC0603N180J500CT; Supplier: LCSC; Supplier Part Number: C5137620; Capacitance: 18pF; Tolerance: 5%; Voltage Rating: 50V; Temperature Coefficient: C0G
footprint CAP Ceramic SMD 0603
pins: 1, 2

## CAP 0603 20nF 50V 10% X7R
designator C?, comment 20nF
20nF 10% 50V Ceramic Capacitor X7R 0603; Manufacturer: FOJAN; Manufacturer Part Number: FCC0603B203K500CT; Supplier: LCSC; Supplier Part Number: C5137632; Capacitance: 20nF; Tolerance: 10%; Voltage Rating: 50V; Temperature Coefficient: X7R
footprint CAP Ceramic SMD 0603
pins: 1, 2

## CAP 0603 20pF 50V 5% C0G
designator C?, comment 20pF
20pF 5% 50V Ceramic Capacitor C0G 0603; Manufacturer: FOJAN; Manufacturer Part Number: FCC0603N200J500CT; Supplier: LCSC; Supplier Part Number: C5137583; Capacitance: 20pF; Tolerance: 5%; Voltage Rating: 50V; Temperature Coefficient: C0G
footprint CAP Ceramic SMD 0603
pins: 1, 2

## CAP 0603 22nF 50V 10% X7R
designator C?, comment 22nF
22nF 10% 50V Ceramic Capacitor X7R 0603; Manufacturer: FOJAN; Manufacturer Part Number: FCC0603B223K500CT; Supplier: LCSC; Supplier Part Number: C5137491; Capacitance: 22nF; Tolerance: 10%; Voltage Rating: 50V; Temperature Coefficient: X7R
footprint CAP Ceramic SMD 0603
pins: 1, 2

## CAP 0603 22pF 50V 5% C0G
designator C?, comment 22pF
22pF 5% 50V Ceramic Capacitor C0G 0603; Manufacturer: FOJAN; Manufacturer Part Number: FCC0603N220J500CT; Supplier: LCSC; Supplier Part Number: C7419421; Capacitance: 22pF; Tolerance: 5%; Voltage Rating: 50V; Temperature Coefficient: C0G
footprint CAP Ceramic SMD 0603
pins: 1, 2

## CAP 0603 22uF 6.3V 20% X5R
designator C?, comment 22uF
22uF 20% 6.3V Ceramic Capacitor X5R 0603; Manufacturer: FOJAN; Manufacturer Part Number: FCC0603X226M6R3CT; Supplier: LCSC; Supplier Part Number: C46635917; Capacitance: 22uF; Tolerance: 20%; Voltage Rating: 6.3V; Temperature Coefficient: X5R
footprint CAP Ceramic SMD 0603
pins: 1, 2

## CAP 0603 22uF 10V 20% X5R
designator C?, comment 22uF
22uF 20% 10V Ceramic Capacitor X5R 0603; Manufacturer: FOJAN; Manufacturer Part Number: FCC0603X226M100CT; Supplier: LCSC; Supplier Part Number: C46635921; Capacitance: 22uF; Tolerance: 20%; Voltage Rating: 10V; Temperature Coefficient: X5R
footprint CAP Ceramic SMD 0603
pins: 1, 2

## CAP 0603 22uF 16V 20% X5R
designator C?, comment 22uF
22uF 20% 16V Ceramic Capacitor X5R 0603; Manufacturer: FOJAN; Manufacturer Part Number: FCC0603X226M160CT; Supplier: LCSC; Supplier Part Number: C46635925; Capacitance: 22uF; Tolerance: 20%; Voltage Rating: 16V; Temperature Coefficient: X5R
footprint CAP Ceramic SMD 0603
pins: 1, 2

## CAP 0603 24pF 50V 5% C0G
designator C?, comment 24pF
24pF 5% 50V Ceramic Capacitor C0G 0603; Manufacturer: FOJAN; Manufacturer Part Number: FCC0603N240J500CT; Supplier: LCSC; Supplier Part Number: C5137567; Capacitance: 24pF; Tolerance: 5%; Voltage Rating: 50V; Temperature Coefficient: C0G
footprint CAP Ceramic SMD 0603
pins: 1, 2

## CAP 0603 27pF 50V 5% C0G
designator C?, comment 27pF
27pF 5% 50V Ceramic Capacitor C0G 0603; Manufacturer: FOJAN; Manufacturer Part Number: FCC0603N270J500CT; Supplier: LCSC; Supplier Part Number: C5137568; Capacitance: 27pF; Tolerance: 5%; Voltage Rating: 50V; Temperature Coefficient: C0G
footprint CAP Ceramic SMD 0603
pins: 1, 2

## CAP 0603 30pF 50V 5% C0G
designator C?, comment 30pF
30pF 5% 50V Ceramic Capacitor C0G 0603; Manufacturer: FOJAN; Manufacturer Part Number: FCC0603N300J500CT; Supplier: LCSC; Supplier Part Number: C7419422; Capacitance: 30pF; Tolerance: 5%; Voltage Rating: 50V; Temperature Coefficient: C0G
footprint CAP Ceramic SMD 0603
pins: 1, 2

## CAP 0603 33nF 50V 10% X7R
designator C?, comment 33nF
33nF 10% 50V Ceramic Capacitor X7R 0603; Manufacturer: FOJAN; Manufacturer Part Number: FCC0603B333K500CT; Supplier: LCSC; Supplier Part Number: C5137563; Capacitance: 33nF; Tolerance: 10%; Voltage Rating: 50V; Temperature Coefficient: X7R
footprint CAP Ceramic SMD 0603
pins: 1, 2

## CAP 0603 33pF 50V 5% C0G
designator C?, comment 33pF
33pF 5% 50V Ceramic Capacitor C0G 0603; Manufacturer: FOJAN; Manufacturer Part Number: FCC0603N330J500CT; Supplier: LCSC; Supplier Part Number: C5137624; Capacitance: 33pF; Tolerance: 5%; Voltage Rating: 50V; Temperature Coefficient: C0G
footprint CAP Ceramic SMD 0603
pins: 1, 2

## CAP 0603 47nF 50V 10% X7R
designator C?, comment 47nF
47nF 10% 50V Ceramic Capacitor X7R 0603; Manufacturer: FOJAN; Manufacturer Part Number: FCC0603B473K500CT; Supplier: LCSC; Supplier Part Number: C5137490; Capacitance: 47nF; Tolerance: 10%; Voltage Rating: 50V; Temperature Coefficient: X7R
footprint CAP Ceramic SMD 0603
pins: 1, 2

## CAP 0603 47pF 50V 5% C0G
designator C?, comment 47pF
47pF 5% 50V Ceramic Capacitor C0G 0603; Manufacturer: FOJAN; Manufacturer Part Number: FCC0603N470J500CT; Supplier: LCSC; Supplier Part Number: C5137501; Capacitance: 47pF; Tolerance: 5%; Voltage Rating: 50V; Temperature Coefficient: C0G
footprint CAP Ceramic SMD 0603
pins: 1, 2

## CAP 0603 47uF 6.3V 20% X5R
designator C?, comment 47uF
47uF 20% 6.3V Ceramic Capacitor X5R 0603; Manufacturer: FOJAN; Manufacturer Part Number: FCC0603X476M6R3CT; Supplier: LCSC; Supplier Part Number: C46635927; Capacitance: 47uF; Tolerance: 20%; Voltage Rating: 6.3V; Temperature Coefficient: X5R
footprint CAP Ceramic SMD 0603
pins: 1, 2

## CAP 0603 56pF 50V 5% C0G
designator C?, comment 56pF
56pF 5% 50V Ceramic Capacitor C0G 0603; Manufacturer: FOJAN; Manufacturer Part Number: FCC0603N560J500CT; Supplier: LCSC; Supplier Part Number: C7467157; Capacitance: 56pF; Tolerance: 5%; Voltage Rating: 50V; Temperature Coefficient: C0G
footprint CAP Ceramic SMD 0603
pins: 1, 2

## CAP 0603 68nF 50V 10% X7R
designator C?, comment 68nF
68nF 10% 50V Ceramic Capacitor X7R 0603; Manufacturer: FOJAN; Manufacturer Part Number: FCC0603B683K500CT; Supplier: LCSC; Supplier Part Number: C5137586; Capacitance: 68nF; Tolerance: 10%; Voltage Rating: 50V; Temperature Coefficient: X7R
footprint CAP Ceramic SMD 0603
pins: 1, 2

## CAP 0603 82nF 50V 10% X7R
designator C?, comment 82nF
82nF 10% 50V Ceramic Capacitor X7R 0603; Manufacturer: FOJAN; Manufacturer Part Number: FCC0603B823K500CT; Supplier: LCSC; Supplier Part Number: C5137566; Capacitance: 82nF; Tolerance: 10%; Voltage Rating: 50V; Temperature Coefficient: X7R
footprint CAP Ceramic SMD 0603
pins: 1, 2

## CAP 0603 100nF 50V 10% X7R
designator C?, comment 100nF
100nF 10% 50V Ceramic Capacitor X7R 0603; Manufacturer: FOJAN; Manufacturer Part Number: FCC0603B104K500CT; Supplier: LCSC; Supplier Part Number: C5137636; Capacitance: 100nF; Tolerance: 10%; Voltage Rating: 50V; Temperature Coefficient: X7R
footprint CAP Ceramic SMD 0603
pins: 1, 2

## CAP 0603 100nF 50V 20% X7R
designator C?, comment 100nF
100nF 20% 50V Ceramic Capacitor X7R 0603; Manufacturer: FOJAN; Manufacturer Part Number: FCC0603B104M500CT; Supplier: LCSC; Supplier Part Number: C7419417; Capacitance: 100nF; Tolerance: 20%; Voltage Rating: 50V; Temperature Coefficient: X7R
footprint CAP Ceramic SMD 0603
pins: 1, 2

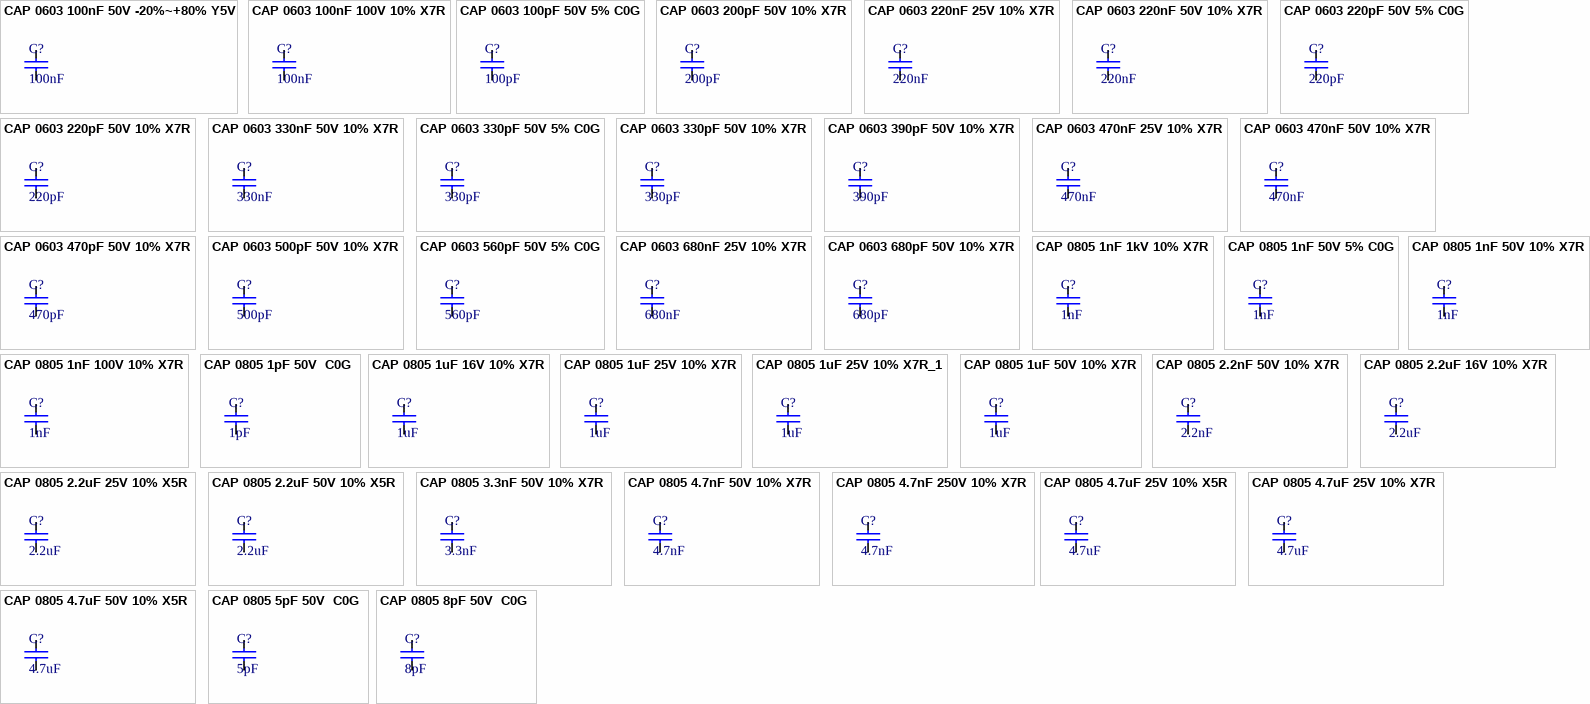
[diagram p3: symbols CAP 0603 100nF 50V -20%~+80% Y5V to CAP 0805 8pF 50V  C0G]

## CAP 0603 100nF 50V -20%~+80% Y5V
designator C?, comment 100nF
100nF -20%~+80% 50V Ceramic Capacitor Y5V 0603; Manufacturer: FOJAN; Manufacturer Part Number: FCC0603F104Z500CT; Supplier: LCSC; Supplier Part Number: C5137469; Capacitance: 100nF; Tolerance: -20%~+80%; Voltage Rating: 50V; Temperature Coefficient: Y5V
footprint CAP Ceramic SMD 0603
pins: 1, 2

## CAP 0603 100nF 100V 10% X7R
designator C?, comment 100nF
100nF 10% 100V Ceramic Capacitor X7R 0603; Manufacturer: FOJAN; Manufacturer Part Number: FCC0603B104K101CT; Supplier: LCSC; Supplier Part Number: C5137616; Capacitance: 100nF; Tolerance: 10%; Voltage Rating: 100V; Temperature Coefficient: X7R
footprint CAP Ceramic SMD 0603
pins: 1, 2

## CAP 0603 100pF 50V 5% C0G
designator C?, comment 100pF
100pF 5% 50V Ceramic Capacitor C0G 0603; Manufacturer: FOJAN; Manufacturer Part Number: FCC0603N101J500CT; Supplier: LCSC; Supplier Part Number: C5137494; Capacitance: 100pF; Tolerance: 5%; Voltage Rating: 50V; Temperature Coefficient: C0G
footprint CAP Ceramic SMD 0603
pins: 1, 2

## CAP 0603 200pF 50V 10% X7R
designator C?, comment 200pF
200pF 10% 50V Ceramic Capacitor X7R 0603; Manufacturer: FOJAN; Manufacturer Part Number: FCC0603B201K500CT; Supplier: LCSC; Supplier Part Number: C7467156; Capacitance: 200pF; Tolerance: 10%; Voltage Rating: 50V; Temperature Coefficient: X7R
footprint CAP Ceramic SMD 0603
pins: 1, 2

## CAP 0603 220nF 25V 10% X7R
designator C?, comment 220nF
220nF 10% 25V Ceramic Capacitor X7R 0603; Manufacturer: FOJAN; Manufacturer Part Number: FCC0603B224K250CT; Supplier: LCSC; Supplier Part Number: C7467041; Capacitance: 220nF; Tolerance: 10%; Voltage Rating: 25V; Temperature Coefficient: X7R
footprint CAP Ceramic SMD 0603
pins: 1, 2

## CAP 0603 220nF 50V 10% X7R
designator C?, comment 220nF
220nF 10% 50V Ceramic Capacitor X7R 0603; Manufacturer: FOJAN; Manufacturer Part Number: FCC0603B224K500CT; Supplier: LCSC; Supplier Part Number: C5137500; Capacitance: 220nF; Tolerance: 10%; Voltage Rating: 50V; Temperature Coefficient: X7R
footprint CAP Ceramic SMD 0603
pins: 1, 2

## CAP 0603 220pF 50V 5% C0G
designator C?, comment 220pF
220pF 5% 50V Ceramic Capacitor C0G 0603; Manufacturer: FOJAN; Manufacturer Part Number: FCC0603N221J500CT; Supplier: LCSC; Supplier Part Number: C7467111; Capacitance: 220pF; Tolerance: 5%; Voltage Rating: 50V; Temperature Coefficient: C0G
footprint CAP Ceramic SMD 0603
pins: 1, 2

## CAP 0603 220pF 50V 10% X7R
designator C?, comment 220pF
220pF 10% 50V Ceramic Capacitor X7R 0603; Manufacturer: FOJAN; Manufacturer Part Number: FCC0603B221K500CT; Supplier: LCSC; Supplier Part Number: C5137564; Capacitance: 220pF; Tolerance: 10%; Voltage Rating: 50V; Temperature Coefficient: X7R
footprint CAP Ceramic SMD 0603
pins: 1, 2

## CAP 0603 330nF 50V 10% X7R
designator C?, comment 330nF
330nF 10% 50V Ceramic Capacitor X7R 0603; Manufacturer: FOJAN; Manufacturer Part Number: FCC0603B334K500CT; Supplier: LCSC; Supplier Part Number: C7419419; Capacitance: 330nF; Tolerance: 10%; Voltage Rating: 50V; Temperature Coefficient: X7R
footprint CAP Ceramic SMD 0603
pins: 1, 2

## CAP 0603 330pF 50V 5% C0G
designator C?, comment 330pF
330pF 5% 50V Ceramic Capacitor C0G 0603; Manufacturer: FOJAN; Manufacturer Part Number: FCC0603N331J500CT; Supplier: LCSC; Supplier Part Number: C7467115; Capacitance: 330pF; Tolerance: 5%; Voltage Rating: 50V; Temperature Coefficient: C0G
footprint CAP Ceramic SMD 0603
pins: 1, 2

## CAP 0603 330pF 50V 10% X7R
designator C?, comment 330pF
330pF 10% 50V Ceramic Capacitor X7R 0603; Manufacturer: FOJAN; Manufacturer Part Number: FCC0603B331K500CT; Supplier: LCSC; Supplier Part Number: C5137615; Capacitance: 330pF; Tolerance: 10%; Voltage Rating: 50V; Temperature Coefficient: X7R
footprint CAP Ceramic SMD 0603
pins: 1, 2

## CAP 0603 390pF 50V 10% X7R
designator C?, comment 390pF
390pF 10% 50V Ceramic Capacitor X7R 0603; Manufacturer: FOJAN; Manufacturer Part Number: FCC0603B391K500CT; Supplier: LCSC; Supplier Part Number: C7496644; Capacitance: 390pF; Tolerance: 10%; Voltage Rating: 50V; Temperature Coefficient: X7R
footprint CAP Ceramic SMD 0603
pins: 1, 2

## CAP 0603 470nF 25V 10% X7R
designator C?, comment 470nF
470nF 10% 25V Ceramic Capacitor X7R 0603; Manufacturer: FOJAN; Manufacturer Part Number: FCC0603B474K250CT; Supplier: LCSC; Supplier Part Number: C5137644; Capacitance: 470nF; Tolerance: 10%; Voltage Rating: 25V; Temperature Coefficient: X7R
footprint CAP Ceramic SMD 0603
pins: 1, 2

## CAP 0603 470nF 50V 10% X7R
designator C?, comment 470nF
470nF 10% 50V Ceramic Capacitor X7R 0603; Manufacturer: FOJAN; Manufacturer Part Number: FCC0603B474K500CT; Supplier: LCSC; Supplier Part Number: C7467054; Capacitance: 470nF; Tolerance: 10%; Voltage Rating: 50V; Temperature Coefficient: X7R
footprint CAP Ceramic SMD 0603
pins: 1, 2

## CAP 0603 470pF 50V 10% X7R
designator C?, comment 470pF
470pF 10% 50V Ceramic Capacitor X7R 0603; Manufacturer: FOJAN; Manufacturer Part Number: FCC0603B471K500CT; Supplier: LCSC; Supplier Part Number: C5137637; Capacitance: 470pF; Tolerance: 10%; Voltage Rating: 50V; Temperature Coefficient: X7R
footprint CAP Ceramic SMD 0603
pins: 1, 2

## CAP 0603 500pF 50V 10% X7R
designator C?, comment 500pF
500pF 10% 50V Ceramic Capacitor X7R 0603; Manufacturer: FOJAN; Manufacturer Part Number: FCC0603B501K500CT; Supplier: LCSC; Supplier Part Number: C7496638; Capacitance: 500pF; Tolerance: 10%; Voltage Rating: 50V; Temperature Coefficient: X7R
footprint CAP Ceramic SMD 0603
pins: 1, 2

## CAP 0603 560pF 50V 5% C0G
designator C?, comment 560pF
560pF 5% 50V Ceramic Capacitor C0G 0603; Manufacturer: FOJAN; Manufacturer Part Number: FCC0603N561J500CT; Supplier: LCSC; Supplier Part Number: C5137605; Capacitance: 560pF; Tolerance: 5%; Voltage Rating: 50V; Temperature Coefficient: C0G
footprint CAP Ceramic SMD 0603
pins: 1, 2

## CAP 0603 680nF 25V 10% X7R
designator C?, comment 680nF
680nF 10% 25V Ceramic Capacitor X7R 0603; Manufacturer: FOJAN; Manufacturer Part Number: FCC0603B684K250CT; Supplier: LCSC; Supplier Part Number: C7496642; Capacitance: 680nF; Tolerance: 10%; Voltage Rating: 25V; Temperature Coefficient: X7R
footprint CAP Ceramic SMD 0603
pins: 1, 2

## CAP 0603 680pF 50V 10% X7R
designator C?, comment 680pF
680pF 10% 50V Ceramic Capacitor X7R 0603; Manufacturer: FOJAN; Manufacturer Part Number: FCC0603B681K500CT; Supplier: LCSC; Supplier Part Number: C7496641; Capacitance: 680pF; Tolerance: 10%; Voltage Rating: 50V; Temperature Coefficient: X7R
footprint CAP Ceramic SMD 0603
pins: 1, 2

## CAP 0805 1nF 1kV 10% X7R
designator C?, comment 1nF
1nF 10% 1kV Ceramic Capacitor X7R 0805; Manufacturer: FOJAN; Manufacturer Part Number: FCC0805B102K102FT; Supplier: LCSC; Supplier Part Number: C5137645; Capacitance: 1nF; Tolerance: 10%; Voltage Rating: 1kV; Temperature Coefficient: X7R
footprint CAP Ceramic SMD 0805
pins: 1, 2

## CAP 0805 1nF 50V 5% C0G
designator C?, comment 1nF
1nF 5% 50V Ceramic Capacitor C0G 0805; Manufacturer: FOJAN; Manufacturer Part Number: FCC0805N102J500BT; Supplier: LCSC; Supplier Part Number: C5137621; Capacitance: 1nF; Tolerance: 5%; Voltage Rating: 50V; Temperature Coefficient: C0G
footprint CAP Ceramic SMD 0805
pins: 1, 2

## CAP 0805 1nF 50V 10% X7R
designator C?, comment 1nF
1nF 10% 50V Ceramic Capacitor X7R 0805; Manufacturer: FOJAN; Manufacturer Part Number: FCC0805B102K500DT; Supplier: LCSC; Supplier Part Number: C5137496; Capacitance: 1nF; Tolerance: 10%; Voltage Rating: 50V; Temperature Coefficient: X7R
footprint CAP Ceramic SMD 0805
pins: 1, 2

## CAP 0805 1nF 100V 10% X7R
designator C?, comment 1nF
1nF 10% 100V Ceramic Capacitor X7R 0805; Manufacturer: FOJAN; Manufacturer Part Number: FCC0805B102K101DT; Supplier: LCSC; Supplier Part Number: C7419428; Capacitance: 1nF; Tolerance: 10%; Voltage Rating: 100V; Temperature Coefficient: X7R
footprint CAP Ceramic SMD 0805
pins: 1, 2

## CAP 0805 1pF 50V  C0G
designator C?, comment 1pF
1pF 50V Ceramic Capacitor C0G 0805; Manufacturer: FOJAN; Manufacturer Part Number: FCC0805N1R0C500BT; Supplier: LCSC; Supplier Part Number: C7496645; Capacitance: 1pF; Voltage Rating: 50V; Temperature Coefficient: C0G
footprint CAP Ceramic SMD 0805
pins: 1, 2

## CAP 0805 1uF 16V 10% X7R
designator C?, comment 1uF
1uF 10% 16V Ceramic Capacitor X7R 0805; Manufacturer: FOJAN; Manufacturer Part Number: FCC0805B105K160DT; Supplier: LCSC; Supplier Part Number: C5137498; Capacitance: 1uF; Tolerance: 10%; Voltage Rating: 16V; Temperature Coefficient: X7R
footprint CAP Ceramic SMD 0805
pins: 1, 2

## CAP 0805 1uF 25V 10% X7R
designator C?, comment 1uF
1uF 10% 25V Ceramic Capacitor X7R 0805; Manufacturer: FOJAN; Manufacturer Part Number: FCC0805B105K250DT; Supplier: LCSC; Supplier Part Number: C5137482; Capacitance: 1uF; Tolerance: 10%; Voltage Rating: 25V; Temperature Coefficient: X7R
footprint CAP Ceramic SMD 0805
pins: 1, 2